# Altium schematic symbol library Microchip ADC.SchLib: 1 symbol
Pins are listed as number, name and electrical type; pins without a type are passive.

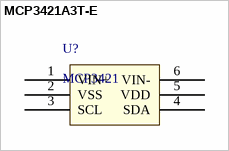
[diagram p0: symbol MCP3421A3T-E]

## MCP3421A3T-E
designator U?, comment MCP3421
18-Bit Analog-to-Digital Converter  with I2  C Interface and On-Board Reference; Manufacturer Part Number: MCP3421A3T-E/CH; Manufacturer: Microchip
footprint SOT23-6 (SOT23, 5-Leads, Body 2.90x2.45mm, Pitch 0.95mm, IPC Medium Density)
pins: 1 VIN+, 2 VSS, 3 SCL, 4 SDA, 5 VDD, 6 VIN-